# EAGLE library part RELAY_IM (library wheat)
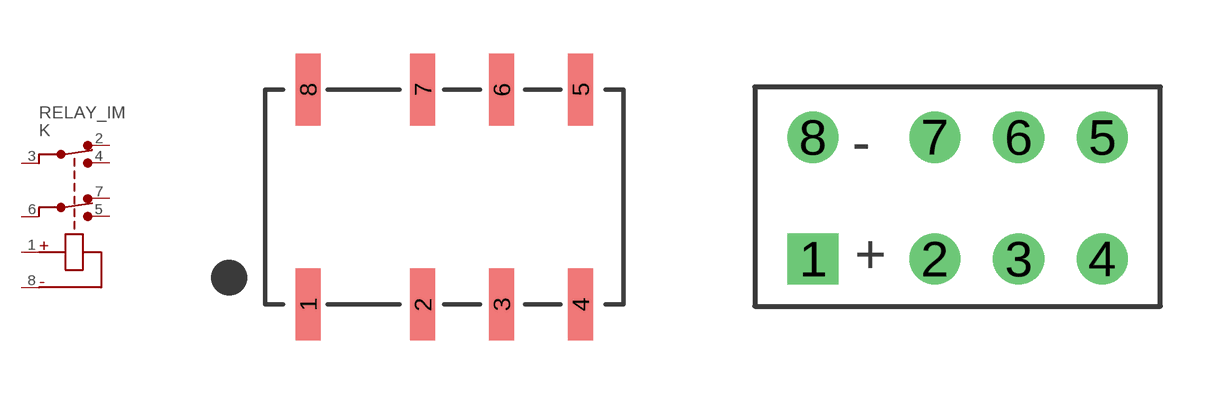
[diagram p185: symbol with the pads of RELAY_IM_GW; footprints RELAY_IM_GW, RELAY_GN]

Designator prefix K

## RELAY_IM_GW  [RELAY_IM_GW]
1  C+  pas
2  NC1  pas
3  COM1  pas
4  NO1  pas
5  NO2  pas
6  COM2  pas
7  NC2  pas
8  C-  pas

## RELAY_IM_GN  [RELAY_GN]
Pads as for RELAY_IM_GW

## Footprint RELAY_IM_GW (pad centres in mm)
smd 0.7 x 2: 1 -3.8,-3; 2 -0.6,-3; 3 1.6,-3; 4 3.8,-3; 5 3.8,3; 6 1.6,3; 7 -0.6,3; 8 -3.8,3

## Footprint RELAY_GN (pad centres in mm)
Relay, Panasonic/Aromat/Nais GN/AGN
drill 0.838 square: 1 -3.8,-1.6
drill 0.838: 2 -0.6,-1.6; 3 1.6,-1.6; 4 3.8,-1.599; 5 3.8,1.6; 6 1.6,1.6; 7 -0.6,1.6; 8 -3.8,1.6